# Altium footprint library SM_2-SMD_FQ1045A.PcbLib: 1 footprints
Each footprint in its own frame and in the unit in brackets; x right, y up, seen from the top. Pads: shape width x height; smd on the part's side, far side on the other; paste and mask are expansions set on the pad; w line width, h text height; cw(c..) or ccw(c..) is an arc to the next point about the centre after c.
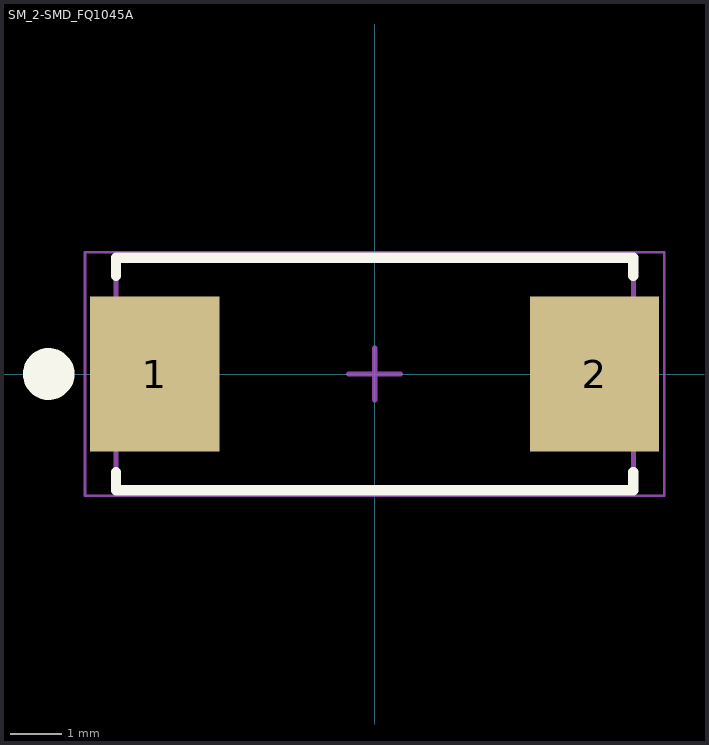
[diagram p0: the footprint, top view; thin cyan lines are the x and y axes]

## SM_2-SMD_FQ1045A [mm] "2-SMD for Crystal FQ1045A series"
pads (2):
  rect 2.5x3 smd: 1(-4.25,0) 2(4.25,0)
Top Overlay:
  circle w0.5: c-6.3,0 r0.25
  lines w0.2: -5,-1.9 -5,-2.25 5,-2.25 5,-1.9 ; -5,1.9 -5,2.25 5,2.25 5,1.9
Mechanical 13:
  lines w0.1: -5,-2.25 -5,2.25 5,2.25 5,-2.25 -5,-2.25
Mechanical 15:
  lines w0.05: -5.6,-2.35 -5.6,2.35 5.6,2.35 5.6,-2.35 -5.6,-2.35
  lines w0.1: -0.5,0 0.5,0 ; 0,-0.5 0,0.5
3D body: height 1.7, standoff 0, extent -5,-2.25 5,2.25